# Altium schematic symbol library CONN_HDR_8X2.SchLib: 1 symbol
Pins are listed as number, name and electrical type; pins without a type are passive.

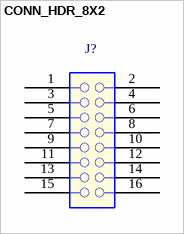
[diagram p0: symbol CONN_HDR_8X2]

## CONN_HDR_8X2
designator J?
CON 2X8 SKT SHRD TH 100MIL CTR 345H AU 126L
pins: 1 A1, 2 B1, 3 A2, 4 B2, 5 A3, 6 B3, 7 A4, 8 B4, 9 A5, 10 B5, 11 A6, 12 B6, 13 A7, 14 B7, 15 A8, 16 B8